# EAGLE library part ESP8266-12 (library stutz-components-library)
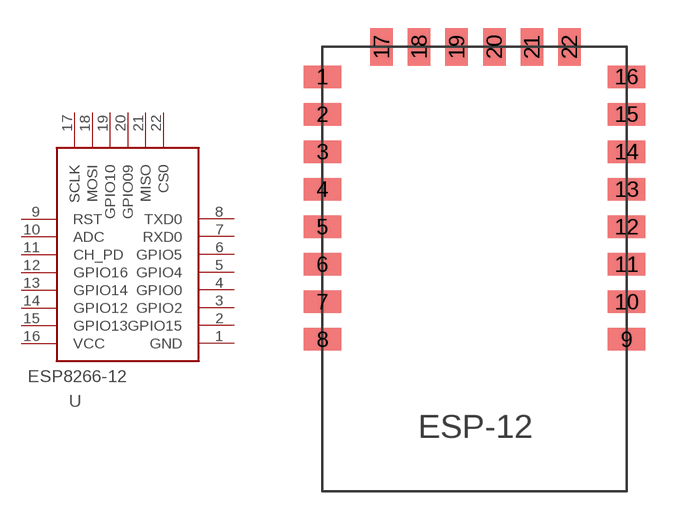
[diagram p21: symbol with the pads of ESP8266-12; footprint ESP8266-12]

Designator prefix -

## ESP8266-12  [ESP8266-12]
1  GND  in
2  GPIO15  in
3  GPIO2  in
4  GPIO0  in
5  GPIO4  in
6  GPIO5  pwr
7  RXD0  pwr
8  TXD0
9  RST  in
10  ADC  in
11  CH_PD  in
12  GPIO16  in
13  GPIO14  in
14  GPIO12  in
15  GPIO13  in
16  VCC  in
17  SCLK
18  MOSI
19  GPIO10
20  GPIO09
21  MISO
22  CS0

## Footprint ESP8266-12 (pad centres in mm)
smd 2 x 1.2: 1 -8.58,9.43; 2 -8.58,7.43; 3 -8.58,5.43; 4 -8.58,3.43; 5 -8.58,1.43; 6 -8.58,-0.57; 7 -8.58,-2.57; 8 -8.58,-4.57; 9 7.62,-4.57; 10 7.62,-2.57; 11 7.62,-0.57; 12 7.62,1.43; 13 7.62,3.43; 14 7.62,5.43; 15 7.62,7.43; 16 7.62,9.43
smd 1.2 x 2: 17 -5.43,11.02; 18 -3.43,11.02; 19 -1.43,11.02; 20 0.57,11.02; 21 2.57,11.02; 22 4.57,11.02